# Altium footprint library Hole_Pin.PcbLib: 1 footprints
Each footprint in its own frame and in the unit in brackets; x right, y up, seen from the top. Pads: shape width x height; smd on the part's side, far side on the other; paste and mask are expansions set on the pad; w line width, h text height; cw(c..) or ccw(c..) is an arc to the next point about the centre after c.
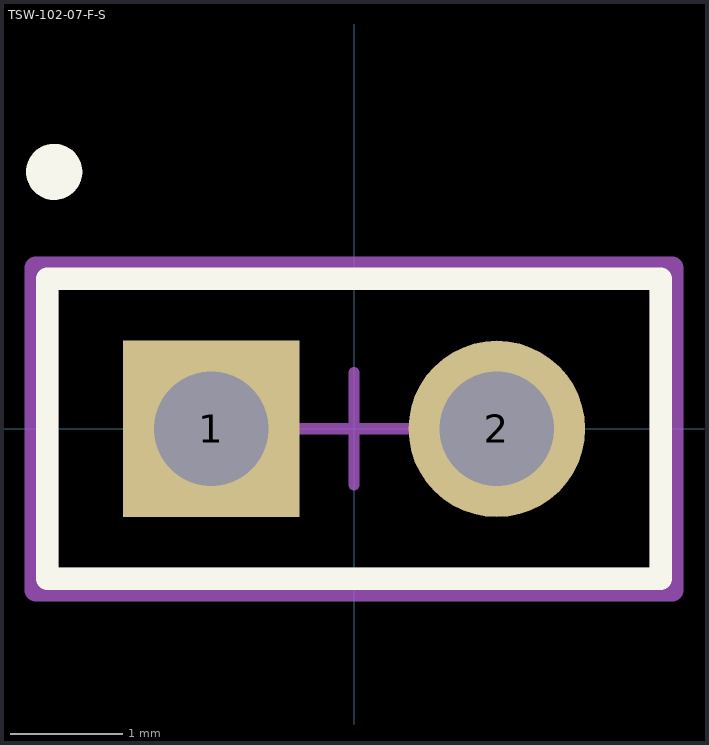
[diagram p0: the footprint, top view; thin cyan lines are the x and y axes]

## TSW-102-07-F-S [mm]
pads (2):
  rect 1.57x1.57 hole 1.02 paste-2539.97 mask+0: 1(-1.27,0)
  round 1.57 hole 1.02 paste-2539.97 mask+0: 2(1.27,0)
Top Overlay:
  circle w0.25: c-2.667,2.286 r0.125
  lines w0.2: -2.73,-1.335 -2.73,1.335 2.73,1.335 2.73,-1.335 -2.73,-1.335
Top Component Center:
  lines w0.1: -0.5,0 0.5,0 ; 0,-0.5 0,0.5
Top Assembly:
  lines w0.2: -2.83,-1.435 -2.83,1.435 2.83,1.435 2.83,-1.435 -2.83,-1.435
  text ".Designator" at 0.141,-3.837 h0.8
Top 3D Body:
  lines w0.2: -2.73,-1.335 -2.73,1.335 2.73,1.335 2.73,-1.335 -2.73,-1.335
Top Courtyard:
  lines w0.2: -2.83,-1.435 -2.83,1.435 2.83,1.435 2.83,-1.435 -2.83,-1.435
3D body "Conn_Samtec_TSW-102-07-F-S_eec.STEP": height 0.25, standoff 0, extent -2.83,-1.435 2.83,1.435